# Altium footprint library DFN2X2-8L.PcbLib: 1 footprints
Each footprint in its own frame and in the unit in brackets; x right, y up, seen from the top. Pads: shape width x height; smd on the part's side, far side on the other; paste and mask are expansions set on the pad; w line width, h text height; cw(c..) or ccw(c..) is an arc to the next point about the centre after c.
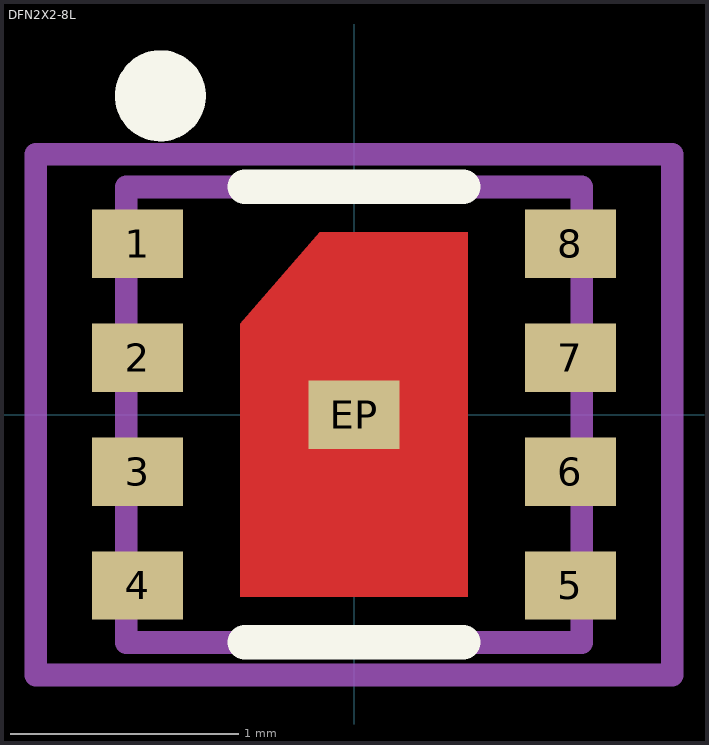
[diagram p0: the footprint, top view; thin cyan lines are the x and y axes]

## DFN2X2-8L [mm]
height 0.8
pads (9):
  rect 0.4x0.3 smd: 1(-0.95,0.75) 2(-0.95,0.25) 3(-0.95,-0.25) 4(-0.95,-0.75) 5(0.95,-0.75) 6(0.95,-0.25) 7(0.95,0.25) 8(0.95,0.75) EP(0,0)
Top Layer:
  region: -0.5,-0.8 0.5,-0.8 0.5,0.8 -0.15,0.8 -0.5,0.4
Top Overlay:
  circle w0.2: c-0.85,1.4 r0.1
  lines w0.152: -0.48,-1 0.48,-1 ; -0.48,1 0.48,1
Mechanical 13:
  lines w0.1: -1,-1 1,-1 1,1 -1,1 -1,-1
Mechanical 15:
  lines w0.1: -0.254,0 0.254,0 ; 0,-0.254 0,0.254 ; -1.397,-1.143 1.397,-1.143 ; -1.397,-1.143 -1.397,1.143 ; -1.397,-1.143 -1.397,1.143 ; -1.397,-1.143 1.397,-1.143 ; -1.397,1.143 1.397,1.143 ; -1.397,1.143 1.397,1.143 ; 1.397,-1.143 1.397,1.143 ; 1.397,-1.143 1.397,1.143
3D body: height 0.81, standoff 0.01, extent -1.02,-1 1.019,1